# Altium footprint library myPcbLib.PcbLib: 124 footprints (part 8 of 8)
Each footprint in its own frame and in the unit in brackets; x right, y up, seen from the top. Pads: shape width x height; smd on the part's side, far side on the other; paste and mask are expansions set on the pad; w line width, h text height; cw(c..) or ccw(c..) is an arc to the next point about the centre after c.
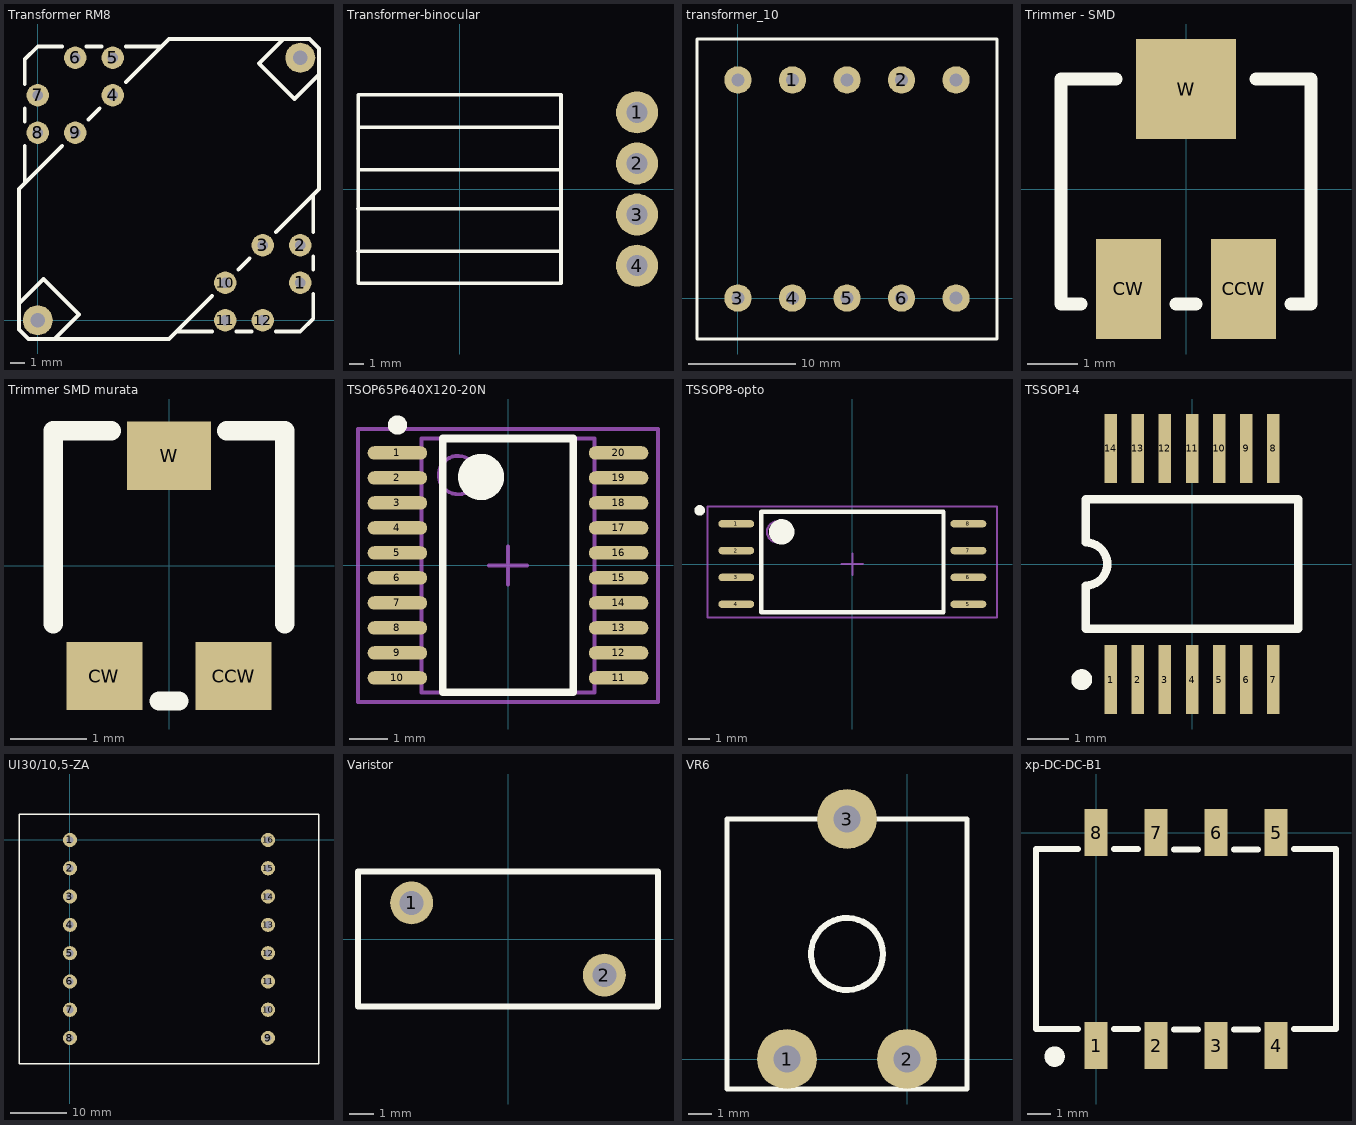
[diagram p7: the footprints below, top view; thin cyan lines are the x and y axes]

## Transformer RM8 [mil]
pads (14):
  round 60 hole 27.56: 1(700,100) 2(700,200) 3(600,200) 4(200,600) 5(200,700) 6(100,700) 7(0,600) 8(0,500) 9(100,500) 10(500,100) 11(500,0) 12(600,0)
  round 80 hole 39.37: ""(0,0) ""(700,700)
Top Overlay:
  lines w10: -50,45 15,110 110,15 45,-50 ; -35,365 -35,465 ; -35,530 -35,565 ; -35,630 -35,695 0,730 65,730 ; 65,465 -50,350 -50,-25 -25,-50 350,-50 465,65 ; 130,730 170,730 ; 135,535 165,565 ; 235,635 350,750 725,750 750,725 750,350 635,235 ; 235,730 330,730 ; 370,-30 465,-30 ; 530,-30 570,-30 ; 535,135 565,165 ; 635,-30 700,-30 735,5 735,70 ; 655,750 590,685 685,590 750,655 ; 735,135 735,170 ; 735,235 735,335

## Transformer-binocular [mm]
pads (4):
  round 3 hole 1.5: 1(12.7,5.499) 2(12.7,1.846) 3(12.7,-1.808) 4(12.7,-5.461)
Top Overlay:
  lines w0.254: -7.261,-4.445 7.239,-4.445 ; -7.261,-1.397 7.239,-1.397 ; -7.239,1.397 7.261,1.397 ; -7.239,4.445 7.261,4.445 ; -7.239,-6.731 -7.239,6.769 7.261,6.769 7.261,-6.731 -7.239,-6.731

## transformer_10 [mm]
pads (10):
  round 2.54 hole 1.2: 1(5.08,20.32) 2(15.24,20.32) 3(0,0) 4(5.08,0) 5(10.16,0) 6(15.24,0) ""(0,20.32) ""(10.16,20.32) ""(20.32,0) ""(20.32,20.32)
Top Overlay:
  lines w0.254: -3.81,-3.81 -3.81,24.13 24.13,24.13 24.13,-3.81 -3.81,-3.81

## Trimmer - SMD [mm] "TS53YJ"
pads (3):
  rect 1.3x2 smd: CCW(1.15,-2) CW(-1.15,-2)
  rect 2x2 smd: W(0,2)
Top Overlay:
  lines w0.254: -2.1,-2.3 -2.5,-2.3 -2.5,2.2 -1.4,2.2 ; -0.2,-2.3 0.2,-2.3 ; 1.4,2.2 2.5,2.2 2.5,-2.3 2.1,-2.3

## Trimmer SMD murata [mm] "TS53YJ"
pads (3):
  rect 1x0.9 smd: CCW(0.85,-1.45) CW(-0.85,-1.45)
  rect 1.1x0.9 smd: W(0,1.45)
Top Overlay:
  lines w0.254: -1.524,-0.762 -1.524,0 -1.524,1.778 -0.762,1.778 ; -0.127,-1.778 0.127,-1.778 ; 0.762,1.778 1.524,1.778 1.524,0 1.524,-0.762

## TSOP65P640X120-20N [mm] "TSOP, 20-Leads, Body 6,6x4,5mm (max), Pitch 0,65mm, IPC Medium Density"
height 1.2
pads (20):
  oval 1.55x0.35 smd: 1(-2.875,2.925) 2(-2.875,2.275) 3(-2.875,1.625) 4(-2.875,0.975) 5(-2.875,0.325) 6(-2.875,-0.325) 7(-2.875,-0.975) 8(-2.875,-1.625) 9(-2.875,-2.275) 10(-2.875,-2.925) 11(2.875,-2.925) 12(2.875,-2.275) 13(2.875,-1.625) 14(2.875,-0.975) 15(2.875,-0.325) 16(2.875,0.325) 17(2.875,0.975) 18(2.875,1.625) 19(2.875,2.275) 20(2.875,2.925)
Top Overlay:
  circle w0.6: c-0.7,2.3 r0.3
  circle w0.25: c-2.875,3.65 r0.125
  lines w0.2: -1.7,-3.3 1.7,-3.3 1.7,3.3 -1.7,3.3 -1.7,-3.3
Mechanical 13:
  circle w0.1: c-1.3,2.35 r0.5
  lines w0.1: -2.25,-3.3 2.25,-3.3 2.25,3.3 -2.25,3.3 -2.25,-3.3
Mechanical 15:
  lines w0.1: -0.5,0 0.5,0 ; 0,-0.5 0,0.5 ; -3.9,-3.55 3.9,-3.55 3.9,3.55 -3.9,3.55 -3.9,-3.55
3D body: height 1.2, standoff 0.15, extent -2.25,-3.3 2.25,3.3

## TSSOP8-opto [mm] "TSOP, 8-Leads, Body 3,1x4,5mm (max), Pitch 0,65mm, IPC Medium Density"
height 1.2
pads (8):
  oval 1.7x0.35 smd: 1(-5.5,1.905) 2(-5.5,0.635) 3(-5.5,-0.635) 4(-5.5,-1.905) 5(5.5,-1.905) 6(5.5,-0.635) 7(5.5,0.635) 8(5.5,1.905)
Top Overlay:
  circle w0.6: c-3.348,1.524 r0.3
  circle w0.25: c-7.237,2.54 r0.125
  lines w0.2: -4.318,-2.286 4.318,-2.286 4.318,2.48 -4.318,2.48 -4.318,-2.286
Mechanical 13:
  circle w0.1: c-3.548,1.524 r0.5
  lines w0.1: -4.318,-2.286 4.318,-2.286 4.318,2.48 -4.318,2.48 -4.318,-2.286
Mechanical 15:
  lines w0.1: -0.5,0 0.5,0 ; 0,-0.508 0,0.492 ; -6.858,-2.54 6.858,-2.54 6.858,2.73 -6.858,2.73 -6.858,-2.54
3D body: height 1.2, standoff 0.15, extent -4.318,-2.286 4.318,2.54

## TSSOP14 [mm] "Shrink Small Outline; 14 Leads; Body Width 4.4 mm; Pitch 0.65 mm"
height 1.1
pads (14):
  rect 0.3x1.65 smd: 1(-1.95,-2.775) 2(-1.3,-2.775) 3(-0.65,-2.775) 4(0,-2.775) 5(0.65,-2.775) 6(1.3,-2.775) 7(1.95,-2.775) 8(1.95,2.775) 9(1.3,2.775) 10(0.65,2.775) 11(0,2.775) 12(-0.65,2.775) 13(-1.3,2.775) 14(-1.95,2.775)
Top Overlay:
  circle w0.25: c-2.65,-2.775 r0.125
  lines w0.2: -2.55,-1.55 2.55,-1.55 2.55,1.55 -2.55,1.55 -2.55,0.517 cw(c-2.55,0) -2.55,-0.517 -2.55,-1.55

## UI30/10,5-ZA [mm] "UI30/10,5-ZA"
pads (16):
  round 2.5 hole 1.3: 1(0,0) 2(0,-5) 3(0,-10) 4(0,-15) 5(0,-20) 6(0,-25) 7(0,-30) 8(0,-35) 9(35,-35) 10(35,-30) 11(35,-25) 12(35,-20) 13(35,-15) 14(35,-10) 15(35,-5) 16(35,0)
Top Overlay:
  lines w0.254: -9,-39.5 -9,4.5 44,4.5 44,-39.5 -9,-39.5

## Varistor [mm] "Varistor"
pads (2):
  round 1.778 hole 1: 1(-4,1.5) 2(4,-1.5)
Top Overlay:
  lines w0.254: -6.223,-2.794 6.223,-2.794 6.223,2.794 0,2.794 -6.223,2.794 -6.223,-2.794

## VR6 [mm] "Feed-Through Capacitor; 3 Leads"
pads (3):
  round 2.54 hole 1.15: 1(-5.08,0) 2(0,0) 3(-2.54,10.16)
Top Overlay:
  circle w0.254: c-2.54,4.445 r1.524
  lines w0.2: -7.62,-1.27 2.54,-1.27 2.54,10.16 -7.62,10.16 -7.62,-1.27

## xp-DC-DC-B1 [mil] "xp-DC-DC-B1"
pads (8):
  rect 39x79 smd: 1(0,-355) 2(100,-355) 3(200,-355) 4(300,-355) 5(300,0) 6(200,0) 7(100,0) 8(0,0)
Top Overlay:
  circle w20: c-69,-373.5 r7
  lines w10: -30,-327.5 -100,-327.5 -100,-177.5 -100,-27.5 -30,-27.5 ; 30,-327.5 70,-327.5 ; 30,-27.5 70,-27.5 ; 130,-328.5 170,-328.5 ; 130,-28.5 170,-28.5 ; 230,-328.5 270,-328.5 ; 230,-28.5 270,-28.5 ; 330,-327.5 400,-327.5 400,-27.5 330,-27.5